# Altium footprint library SnapEDApcb.PcbLib: 1 footprints
Each footprint in its own frame and in the unit in brackets; x right, y up, seen from the top. Pads: shape width x height; smd on the part's side, far side on the other; paste and mask are expansions set on the pad; w line width, h text height; cw(c..) or ccw(c..) is an arc to the next point about the centre after c.
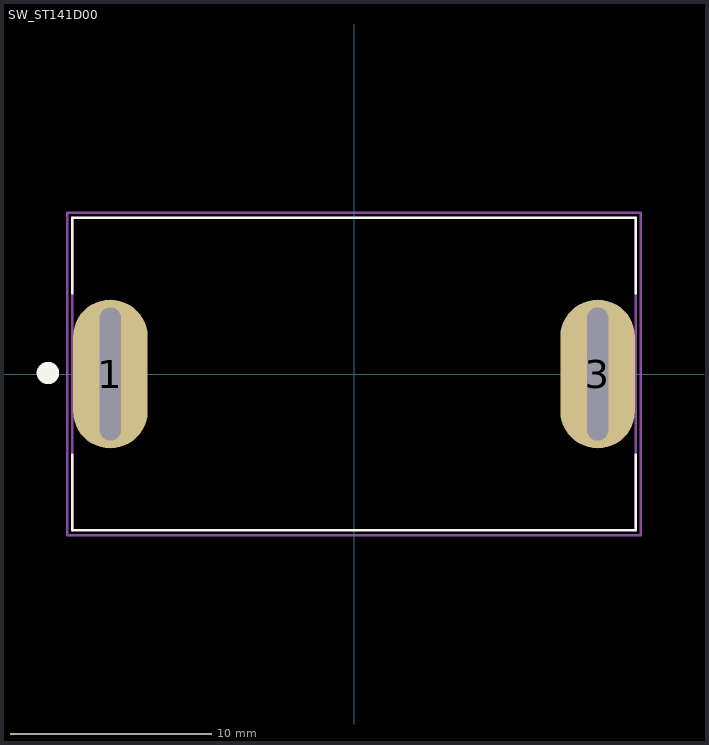
[diagram p0: the footprint, top view; thin cyan lines are the x and y axes]

## SW_ST141D00 [mm]
pads (2):
  oval 3.7x7.4 hole 1.05 slot 6.6 at 90 deg: 1(-12.1,0) 3(12.1,0)
Top Overlay:
  circle w0.61: c-15.2,0.05 r0.25
  lines w0.127: -14,-4 -14,-7.75 14,-7.75 14,-4 ; -14,4 -14,7.75 14,7.75 14,4
Mechanical 13:
  lines w0.127: -14,-7.75 -14,7.75 ; 14,-7.75 14,7.75
Mechanical 15:
  lines w0.127: -14.25,-8 -14.25,8 14.25,8 14.25,-8 -14.25,-8
3D body "22233.stp": height 32.88, standoff -3.5, extent -5.647,19.181 15.553,32.381